# Altium footprint library PCB - BATTERY HOLDER - KEYSTONE 3034TR.PCBLIB: 1 footprints
Each footprint in its own frame and in the unit in brackets; x right, y up, seen from the top. Pads: shape width x height; smd on the part's side, far side on the other; paste and mask are expansions set on the pad; w line width, h text height; cw(c..) or ccw(c..) is an arc to the next point about the centre after c.
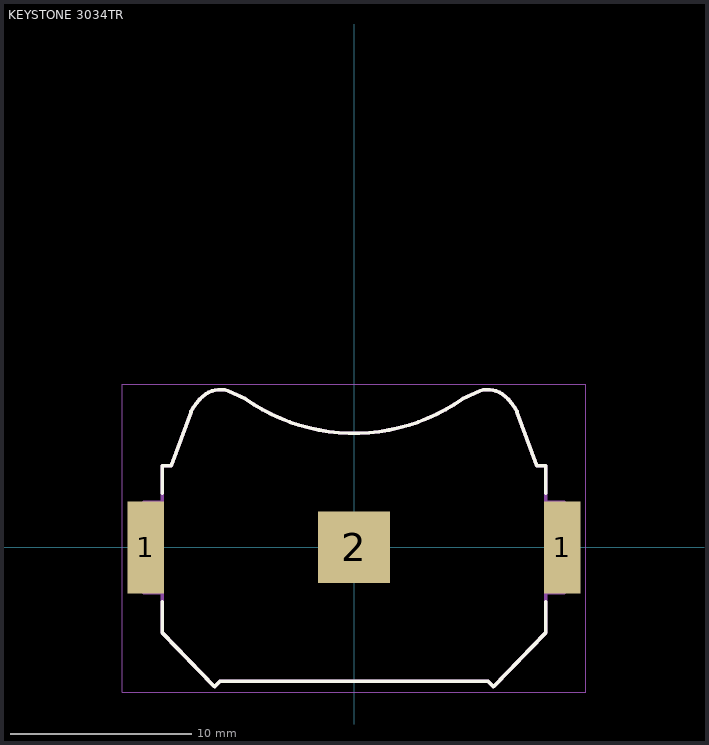
[diagram p0: the footprint, top view; thin cyan lines are the x and y axes]

## KEYSTONE 3034TR [mm] "Battery Retainer Coin, 20.0mm 1 Cell SMD (SMT) Tab"
height 4.06
pads (3):
  rect 2x5.08 smd: 1(-11.5,0) 1(11.5,0)
  rect 3.96x3.96 smd: 2(0,0)
Top Overlay:
  lines w0.2: -10.6,-3 -10.6,-4.7 -7.7,-7.7 -7.4,-7.4 7.4,-7.4 7.7,-7.7 10.6,-4.7 10.6,-3 ; -10.6,3 -10.6,4.5 -10.1,4.5 -9,7.5 cw(c-6.65,6.35) -8.18,8.472 cw(c-7.381,7.274) -6.972,8.655 -6,8.2 ccw(c0,16.724) 6,8.2 6.972,8.655 cw(c7.381,7.274) 8.18,8.472 cw(c6.65,6.35) 9,7.5 10.1,4.5 10.6,4.5 10.6,3
Mechanical 1:
  lines w0.2: -11.6,-2.5 -10.6,-2.5 -10.6,-4.7 -7.7,-7.7 -7.4,-7.4 7.4,-7.4 7.7,-7.7 10.6,-4.7 10.6,-2.5 11.6,-2.5 11.6,2.5 10.6,2.5 10.6,4.5 10.1,4.5 9,7.5 ccw(c6.65,6.35) 8.18,8.472 ccw(c7.381,7.274) 6.972,8.655 6,8.2 cw(c0,16.724) -6,8.2 -6.972,8.655 ccw(c-7.381,7.274) -8.18,8.472 ccw(c-6.65,6.35) -9,7.5 -10.1,4.5 -10.6,4.5 -10.6,2.5 -11.6,2.5 -11.6,-2.5
Mechanical 15:
  lines w0.05: -12.8,-8 -12.8,9 12.8,9 12.8,-8 -12.8,-8
  lines w0.1: -0.5,0 0.5,0 ; 0,-0.5 0,0.5
3D body "Keystone - 3034TR.step": height 4.06, standoff 0, extent -11.62,-7.743 11.62,8.734